# Altium footprint library WG-LOCK.PcbLib: 52 footprints (part 1 of 4)
Each footprint in its own frame and in the unit in brackets; x right, y up, seen from the top. Pads: shape width x height; smd on the part's side, far side on the other; paste and mask are expansions set on the pad; w line width, h text height; cw(c..) or ccw(c..) is an arc to the next point about the centre after c.
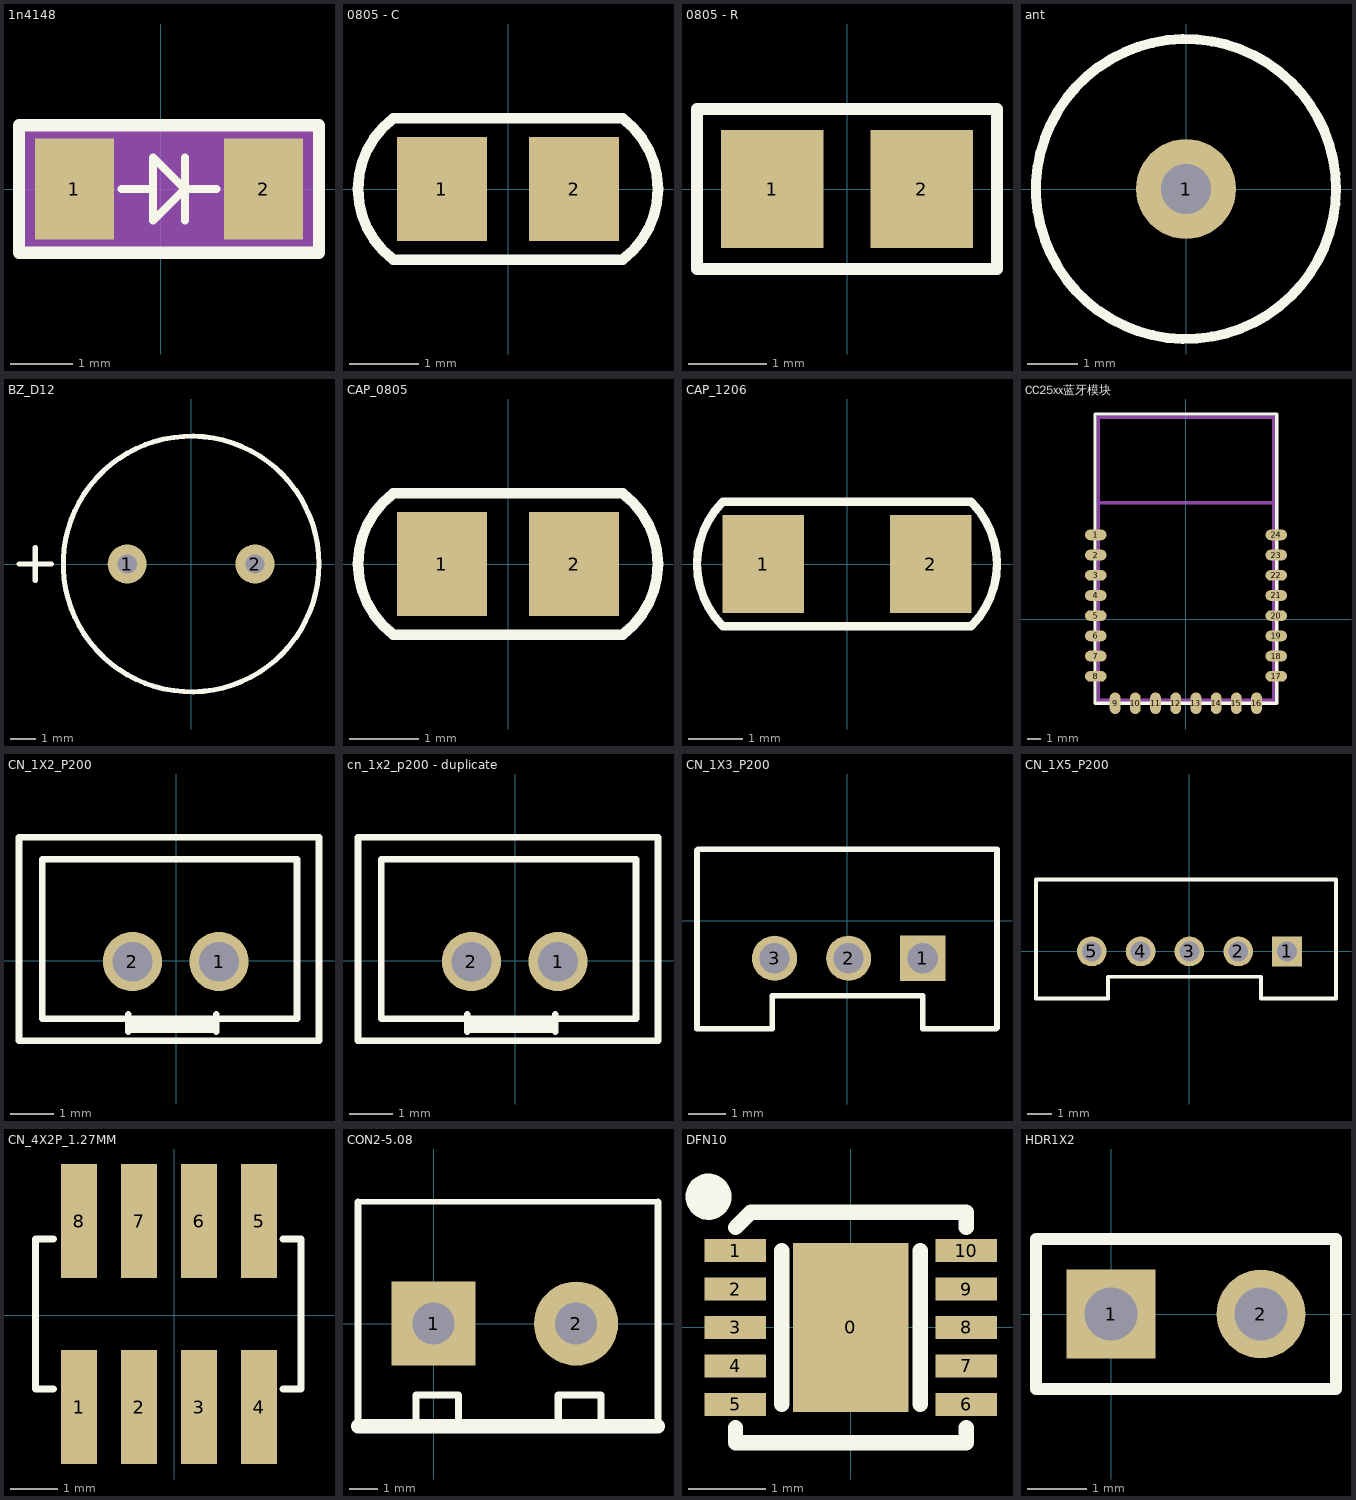
[diagram p0: the footprints below, top view; thin cyan lines are the x and y axes]

## 1n4148 [mm] "1N4148"
pads (2):
  rect 1.27x1.631 smd: 1(-1.389,0) 2(1.648,0)
Top Overlay:
  lines w0.127: -0.633,0 -0.125,0 ; 0.383,-0.508 0.383,0.508 ; 0.891,0 0.383,0 ; 0.383,0 -0.125,0.508 -0.125,-0.508 0.383,0
  lines w0.201: -2.281,-1.021 -2.281,1.021 -1.522,1.021 2.54,1.021 2.54,-1.021 -2.281,-1.021
Mechanical 8:
  text "2" at 1.394,0 h0.64
  text "1" at -1.643,0 h0.64
Mechanical 10:
  region: -2.281,-1.021 -2.281,1.021 2.54,1.021 2.54,-1.021

## 0805 - C [mm] "SMD_CAP_0805"
pads (2):
  rect 1.3x1.5 smd: 1(-0.95,0) 2(0.95,0)
Top Overlay:
  lines w0.152: -1.651,-1.016 cw(c-0.889,0) -1.651,1.016 1.651,1.016 cw(c0.889,0) 1.651,-1.016 -1.651,-1.016

## 0805 - R [mm]
pads (2):
  rect 1.3x1.5 smd: 1(-0.95,0) 2(0.95,0)
Top Overlay:
  lines w0.152: -1.905,-1.016 1.905,-1.016 1.905,1.016 -1.905,1.016 -1.905,-1.016
Mechanical 7:
  text "2" at 1.1,-0.254 h0.64
  text "1" at -1.1,-0.254 h0.64

## ant [mm]
pads (1):
  round 2 hole 1: 1(0,0)
Top Overlay:
  circle w0.2: c0,0 r3

## BZ_D12 [mm]
pads (2):
  round 1.524 hole 0.75: 1(-2.5,0) 2(2.5,0)
Top Overlay:
  circle w0.2: c0,0 r5
  lines w0.2: -6.731,0 -5.461,0 ; -6.096,-0.635 -6.096,0.635

## CAP_0805 [mm] "SMD_CAP_0805"
pads (2):
  rect 1.3x1.5 smd: 1(-0.95,0) 2(0.95,0)
Top Overlay:
  lines w0.152: -1.651,-1.016 cw(c-0.889,0) -1.651,1.016 1.651,1.016 cw(c0.889,0) 1.651,-1.016 -1.651,-1.016

## CAP_1206 [mm]
pads (2):
  rect 1.5x1.8 smd: 1(-1.54,0) 2(1.54,0)
Top Overlay:
  lines w0.152: -2.286,-1.143 cw(c-1.143,0) -2.286,1.143 2.286,1.143 cw(c1.143,0) 2.286,-1.143 -2.286,-1.143
Mechanical 7:
  text "1" at -1.1,-0.254 h0.64
  text "2" at 1.1,-0.254 h0.64
Mechanical 15:
  lines w0.1: -1.6,-1.132 1.6,-1.132

## CC25xx蓝牙模块 [mm]
pads (24):
  oval 1.6x0.8 smd: 1(-6.7,6.25) 2(-6.7,4.75) 3(-6.7,3.25) 4(-6.7,1.75) 5(-6.7,0.25) 6(-6.7,-1.25) 7(-6.7,-2.75) 8(-6.7,-4.25) 17(6.7,-4.25) 18(6.7,-2.75) 19(6.7,-1.25) 20(6.7,0.25) 21(6.7,1.75) 22(6.7,3.25) 23(6.7,4.75) 24(6.7,6.25)
  oval 0.8x1.6 smd: 9(-5.262,-6.25) 10(-3.762,-6.25) 11(-2.262,-6.25) 12(-0.762,-6.25) 13(0.738,-6.25) 14(2.238,-6.25) 15(3.738,-6.25) 16(5.238,-6.25)
Top Overlay:
  lines w0.254: -6.756,-6.239 6.731,-6.239 6.731,15.224 -6.756,15.224 -6.756,-6.239
Mechanical 15:
  lines w0.254: -6.5,8.62 6.5,8.62 ; -6.5,-6.028 6.5,-6.028 6.5,14.97 -6.5,14.97 -6.5,-6.028

## CN_1X2_P200 [mil]
pads (2):
  round 54 / inner round 60 / far side round 60 hole 36: 1(38.99,-0.51) 2(-39.75,-0.51)
Top Overlay:
  lines w6: -43.58,-64.51 -43.58,-48.51 ; -41.01,-60.51 33.99,-60.51 ; -39.58,-62.51 34.42,-62.51 ; -39.58,-56.51 34.42,-56.51 ; -39.58,-52.51 34.42,-52.51 ; 36.42,-64.51 36.42,-48.51 ; -143.02,-72.59 -143.02,112.6 -116.01,112.49 129.99,112.49 129.99,-72.51 -116.01,-72.51 -143.02,-72.59 ; -121.76,-52.51 -96.01,-52.51 109.99,-52.51 109.99,92.49 -96.01,92.49 -121.76,92.52 -121.76,-52.51

## cn_1x2_p200 - duplicate [mil]
pads (2):
  round 54 / inner round 60 / far side round 60 hole 36: 1(38.99,-0.51) 2(-39.75,-0.51)
Top Overlay:
  lines w6: -43.58,-64.51 -43.58,-48.51 ; -41.01,-60.51 33.99,-60.51 ; -39.58,-62.51 34.42,-62.51 ; -39.58,-56.51 34.42,-56.51 ; -39.58,-52.51 34.42,-52.51 ; 36.42,-64.51 36.42,-48.51 ; -143.02,-72.59 -116.01,-72.51 129.99,-72.51 129.99,112.49 -116.01,112.49 -143.02,112.6 -143.02,-72.59 ; -121.76,-52.51 -121.76,92.52 -96.01,92.49 109.99,92.49 109.99,-52.51 -96.01,-52.51 -121.76,-52.51

## CN_1X3_P200 [mil]
pads (3):
  rect 48x48 / inner round 60 / far side round 60 hole 32: 1(80,-39.69)
  round 48 / inner round 60 / far side round 60 hole 32: 2(1.26,-39.69) 3(-77.48,-39.69)
Top Overlay:
  lines w6: -160,-76.91 -160,75.31 -159,76.31 159,76.31 159,-113.69 158,-114.69 80,-114.69 80,-79.69 -80,-79.69 -80,-114.69 -160,-114.69 -160,-59.69

## CN_1X5_P200 [mil]
pads (5):
  rect 48x48 / inner round 60 / far side round 60 hole 32: 1(157.48,0)
  round 48 / inner round 60 / far side round 60 hole 32: 2(78.74,0) 3(0,0) 4(-78.74,0) 5(-157.48,0)
Top Overlay:
  lines w5.91: -92.52,-41 -78.74,-41
  lines w6: -117.52,116 236.48,116 236.48,-76 115.48,-76 115.48,-41 -78.74,-41 ; -92.52,-41 -131.52,-41 -131.52,-76 -247.52,-76 -247.52,116 -42.52,116

## CN_4X2P_1.27MM [mil]
pads (8):
  rect 30x95 smd: 1(-79.4,-76.5) 2(-29.4,-76.5) 3(20.6,-76.5) 4(70.6,-76.5) 5(70.6,78.5) 6(20.6,78.5) 7(-29.4,78.5) 8(-79.4,78.5)
Top Overlay:
  lines w6: -100.6,-61.5 -115.6,-61.5 -115.6,63.5 -100.6,63.5 ; 90.6,-61.5 105.6,-61.5 105.6,63.5 90.6,63.5

## CON2-5.08 [mm]
pads (2):
  rect 3x3 hole 1.5: 1(0,0)
  round 3 hole 1.5: 2(5.08,0)
Top Overlay:
  lines w0.2: -2.7,4.343 8.001,4.343
  lines w0.254: -2.7,-3.658 -2.7,4.343 ; -0.635,-3.429 -0.635,-2.54 0.889,-2.54 0.889,-3.429 ; 4.445,-3.429 4.445,-2.54 5.969,-2.54 5.969,-3.429 ; 8.001,-3.658 8.001,4.343
  lines w0.508: -2.7,-3.658 8.001,-3.658

## DFN10 [mm]
pads (11):
  rect 1.5x2.2 smd: 0(0,0)
  rect 0.8x0.3 smd: 1(-1.5,1) 2(-1.5,0.5) 3(-1.5,0) 4(-1.5,-0.5) 5(-1.5,-1) 6(1.5,-1) 7(1.5,-0.5) 8(1.5,0) 9(1.5,0.5) 10(1.5,1)
Top Overlay:
  circle w0.3: c-1.85,1.7 r0.15
  lines w0.2: -1.5,-1.3 -1.5,-1.5 1.5,-1.5 1.5,-1.3 ; -1.5,1.3 -1.3,1.5 -0.3,1.5 0.3,1.5 1.5,1.5 1.5,1.3 ; -0.9,-1 -0.9,1 ; 0.9,-1 0.9,1

## HDR1X2 [mm] "Connector; Header; 2 Position"
pads (2):
  rect 1.5x1.5 hole 0.9: 1(0,0)
  round 1.5 hole 0.9: 2(2.54,0)
Top Overlay:
  lines w0.2: -1.27,-1.27 3.81,-1.27 3.81,1.27 -1.27,1.27 -1.27,-1.27